# EAGLE library part GAN_SINGLE_REF_ELEC (library Jeremy_GaN)
2018 New single sensor with reference electrode and three pads
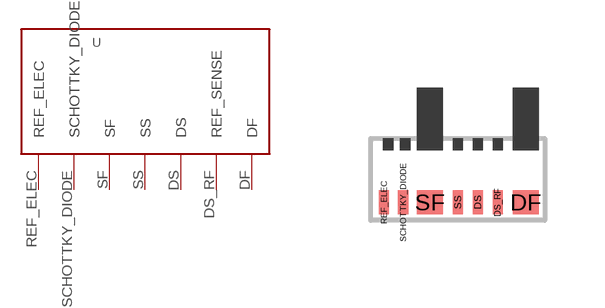
[diagram p0: symbol with the pads of GAN_SENSOR_REF_ELEC; footprint GAN_SENSOR_REF_ELEC]

Designator prefix -

## GAN_SINGLE_REF_ELEC  [GAN_SENSOR_REF_ELEC]
DF  DF  pwr
DS  DS
DS_RF  REF_SENSE
REF_ELEC  REF_ELEC
SCHOTTKY_DIODE  SCHOTTKY_DIODE
SF  SF  pwr
SS  SS

## Footprint GAN_SENSOR_REF_ELEC (pad centres in mm)
GaN single sensor with reference electrode, and Schottky diode
smd 0.66 x 0.6: DF 2.73,0; SF 0.33,0
smd 0.26 x 0.6: DS 1.53,0; DS_RF 2.03,0; REF_ELEC -0.82,0; SS 1.03,0
smd 0.27 x 0.6: SCHOTTKY_DIODE -0.34,0